# EAGLE library part FRSKY_GIMBAL (library MrSwirlyEyes)
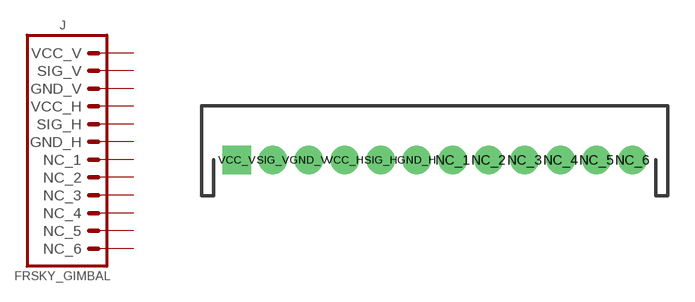
[diagram p0: symbol with the pads of JST_13_PTH; footprint JST_13_PTH]

Designator prefix J

## FRSKY_GIMBAL (CREATOR: MrSwirlyEyes; DATASHEET: http://www.te.com/commerce/DocumentDelivery/DDEController?Action=srchrtrv&DocNm=1735446&DocType=Customer+Drawing&DocLang=English; DIST: Digikey; DISTLINK: https://www.digikey.com/products/en?keywords=A100106-ND; DISTPN: A100106-ND; MFR: TE Connectivity AMP Connectors; MPN: 1-1735446-2; TESTED: NO; VALUE: GIMBAL)  [JST_13_PTH]
GND_H  GND_H  pwr
GND_V  GND_V  pwr
NC_1  NC_1  nc
NC_2  NC_2  nc
NC_3  NC_3  nc
NC_4  NC_4  nc
NC_5  NC_5  nc
NC_6  NC_6  nc
SIG_H  SIG_H
SIG_V  SIG_V
VCC_H  VCC_H  pwr
VCC_V  VCC_V  pwr

## Footprint JST_13_PTH (pad centres in mm)
drill 0.9 pad 1.6: GND_H -0.99,-1.97; GND_V -6.99,-1.97; NC_1 1.01,-1.97; NC_2 3.01,-1.97; NC_3 5.01,-1.97; NC_4 7.01,-1.97; NC_5 9.01,-1.97; NC_6 11.01,-1.97; SIG_H -2.99,-1.97; SIG_V -8.99,-1.97; VCC_H -4.99,-1.97
drill 0.9 pad 1.6 square: VCC_V -10.99,-1.97